# EAGLE library part RPI-B-V2 (library raspberry)
Second revision of the Model 2 board including the P5 and P6 headers. Mounting holes have been added. Choose the "SHIELD" variant for a predefined Dimension layer and drilling holes. Theres also a "SHIELD" variant for the Model A without a RJ45 connector.
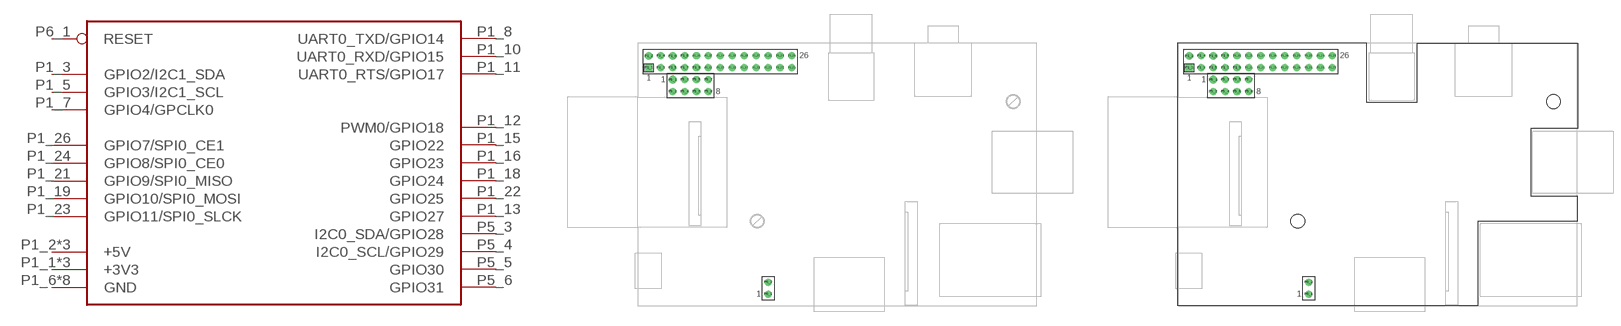
[diagram p0: symbol with the pads of RPI-B-V2; footprints RPI-B-V2, RPI-B-V2-SHIELD]

Designator prefix -

## RPI-B-V2NO_SHIELD  [RPI-B-V2]
P1_1  +3V3  pwr
P1_2  +5V  pwr
P1_3  GPIO2/I2C1_SDA
P1_4  +5V  pwr
P1_5  GPIO3/I2C1_SCL
P1_6  GND  pwr
P1_7  GPIO4/GPCLK0
P1_8  UART0_TXD/GPIO14
P1_9  GND  pwr
P1_10  UART0_RXD/GPIO15
P1_11  UART0_RTS/GPIO17
P1_12  PWM0/GPIO18
P1_13  GPIO27
P1_14  GND  pwr
P1_15  GPIO22
P1_16  GPIO23
P1_17  +3V3  pwr
P1_18  GPIO24
P1_19  GPIO10/SPI0_MOSI
P1_20  GND  pwr
P1_21  GPIO9/SPI0_MISO
P1_22  GPIO25
P1_23  GPIO11/SPI0_SLCK
P1_24  GPIO8/SPI0_CE0
P1_25  GND  pwr
P1_26  GPIO7/SPI0_CE1
P5_1  +5V  pwr
P5_2  +3V3  pwr
P5_3  I2C0_SDA/GPIO28  pwr
P5_4  I2C0_SCL/GPIO29  pwr
P5_5  GPIO30  pwr
P5_6  GPIO31  pwr
P5_7  GND  pwr
P5_8  GND  pwr
P6_1  RESET  pwr
P6_2  GND  pwr

## RPI-B-V2SHIELD  [RPI-B-V2-SHIELD]
Pads as for RPI-B-V2

## RPI-B-V2  [RPI-A-SHIELD]
Pads as for RPI-B-V2

## Footprint RPI-B-V2 (pad centres in mm)
drill 1 square: P1_1 0,0
drill 1 pad 1.676: P1_2 0,2.54; P1_6 5.08,2.54; P5_1 5.08,-2.54
drill 1: P1_3 2.54,0; P1_4 2.54,2.54; P1_5 5.08,0; P1_7 7.62,0; P1_8 7.62,2.54; P1_9 10.16,0; P1_10 10.16,2.54; P1_11 12.7,0; P1_12 12.7,2.54; P1_13 15.24,0; P1_14 15.24,2.54; P1_15 17.78,0; P1_16 17.78,2.54; P1_17 20.32,0; P1_18 20.32,2.54; P1_19 22.86,0; P1_20 22.86,2.54; P1_21 25.4,0; P1_22 25.4,2.54; P1_23 27.94,0; P1_24 27.94,2.54; P1_25 30.48,0; P1_26 30.48,2.54; P5_2 5.08,-5.08; P5_3 7.62,-2.54; P5_4 7.62,-5.08; P5_5 10.16,-2.54; P5_6 10.16,-5.08; P5_7 12.7,-2.54; P5_8 12.7,-5.08; P6_1 25.4,-48.26; P6_2 25.4,-45.72

## Footprint RPI-B-V2-SHIELD (pad centres in mm)
drill 1 square: P1_1 0,0
drill 1 pad 1.676: P1_2 0,2.54; P1_6 5.08,2.54; P5_1 5.08,-2.54
drill 1: P1_3 2.54,0; P1_4 2.54,2.54; P1_5 5.08,0; P1_7 7.62,0; P1_8 7.62,2.54; P1_9 10.16,0; P1_10 10.16,2.54; P1_11 12.7,0; P1_12 12.7,2.54; P1_13 15.24,0; P1_14 15.24,2.54; P1_15 17.78,0; P1_16 17.78,2.54; P1_17 20.32,0; P1_18 20.32,2.54; P1_19 22.86,0; P1_20 22.86,2.54; P1_21 25.4,0; P1_22 25.4,2.54; P1_23 27.94,0; P1_24 27.94,2.54; P1_25 30.48,0; P1_26 30.48,2.54; P5_2 5.08,-5.08; P5_3 7.62,-2.54; P5_4 7.62,-5.08; P5_5 10.16,-2.54; P5_6 10.16,-5.08; P5_7 12.7,-2.54; P5_8 12.7,-5.08; P6_1 25.4,-48.26; P6_2 25.4,-45.72
hole 2.9 at 23.1,-32.72
hole 2.9 at 77.57,-7.21

## Footprint RPI-A-SHIELD (pad centres in mm)
drill 1 square: P1_1 0,0
drill 1 pad 1.676: P1_2 0,2.54; P1_6 5.08,2.54; P5_1 5.08,-2.54
drill 1: P1_3 2.54,0; P1_4 2.54,2.54; P1_5 5.08,0; P1_7 7.62,0; P1_8 7.62,2.54; P1_9 10.16,0; P1_10 10.16,2.54; P1_11 12.7,0; P1_12 12.7,2.54; P1_13 15.24,0; P1_14 15.24,2.54; P1_15 17.78,0; P1_16 17.78,2.54; P1_17 20.32,0; P1_18 20.32,2.54; P1_19 22.86,0; P1_20 22.86,2.54; P1_21 25.4,0; P1_22 25.4,2.54; P1_23 27.94,0; P1_24 27.94,2.54; P1_25 30.48,0; P1_26 30.48,2.54; P5_2 5.08,-5.08; P5_3 7.62,-2.54; P5_4 7.62,-5.08; P5_5 10.16,-2.54; P5_6 10.16,-5.08; P5_7 12.7,-2.54; P5_8 12.7,-5.08; P6_1 25.4,-48.26; P6_2 25.4,-45.72
hole 2.9 at 23.1,-32.72
hole 2.9 at 77.57,-7.21